# Altium integrated library TI Power Management Special Function.IntLib: 97 symbols (part 5 of 7)
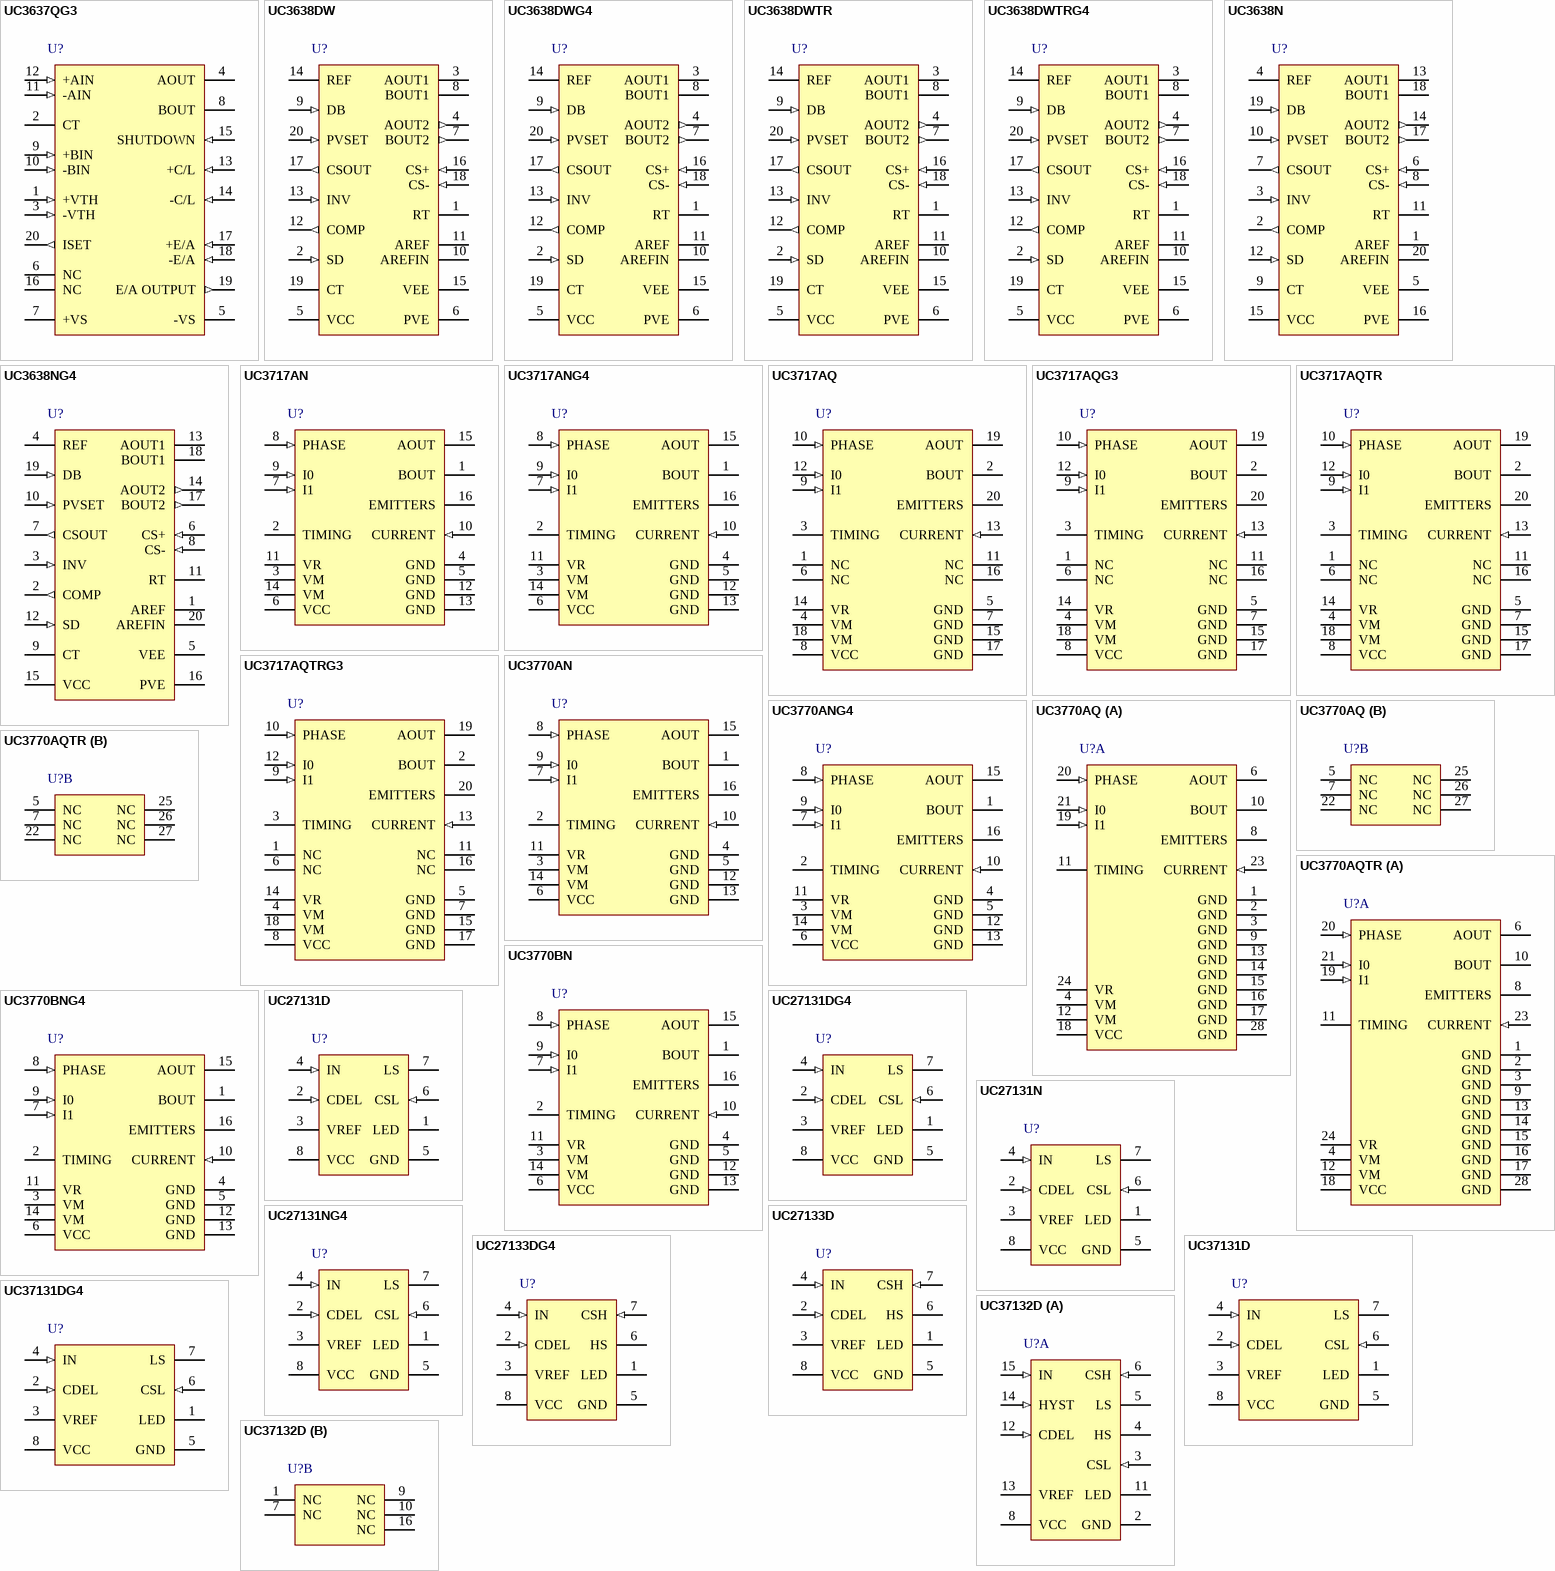
[diagram p7: symbols UC3637QG3 to UC37132D]

## UC3770AQ
designator U?
High Performance Stepper Motor Drive Circuit, 45 V Operating Supply, 0 to 70 degC, 28-pin PLCC (FN), Green (RoHS & no Sb/Br); Manufacturer: Texas Instruments; PartNumber: UC3770AQ; Current-Limited: TRUE; Operating Supply Current(mA): 33; Operating Supply(Max)(V): 45; Operating Supply(Min)(V): 10; Peak Output Current(A): 1.5; SubFamily: Motion/Motor Control; DatasheetVersion: SLUS403A; PackageVersion: revB, Mar-1995; PackageReference: FN28; PackageDescription: 28-Pin Plastic J-Leaded Chip Carrier, 1.27 mm Pitch; Supplier 1: Digi-Key; Supplier Part Number 1: UC3770AQ-ND; Supplier 2: Newark; Supplier Part Number 2: 73C6998; Supplier 3: Mouser; Supplier Part Number 3: 595-UC3770AQ; Eco-Plan: Green (RoHS & no Sb/Br); Stepper Motor Controllers: TRUE; Switching Control: TRUE; Thermal Shutdown: TRUE; Mounting Technology: Surface Mount; Code_JEDEC: MS-018; ComponentLink1Description: Datasheet; ComponentLink1URL: http://www.ti.com/general/docs/lit/getliterature.tsp?genericPartNumber=UC3770A&fileType=pdf
footprint FN28_N (Leaded Chip Carrier, 28-Leads, Body 11.5x11.5mm, Pitch 1.27mm, IPC Medium Density)
footprint FN28_L (Leaded Chip Carrier, 28-Leads, Body 11.5x11.5mm, Pitch 1.27mm, IPC High Density)
footprint FN28_M (Leaded Chip Carrier, 28-Leads, Body 11.5x11.5mm, Pitch 1.27mm, IPC Low Density)
part A pins: 1 GND (power), 2 GND (power), 3 GND (power), 4 VM (power), 6 AOUT (power), 8 EMITTERS (oe), 9 GND (power), 10 BOUT (power), 11 TIMING, 12 VM (power), 13 GND (power), 14 GND (power), 15 GND (power), 16 GND (power), 17 GND (power), 18 VCC (power), 19 I1 (in), 20 PHASE (in), 21 I0 (in), 23 CURRENT (in), 24 VR (power), 28 GND (power)
part B pins: 5 NC, 7 NC, 22 NC, 25 NC, 26 NC, 27 NC

## UC3770AQTR
designator U?
High Performance Stepper Motor Drive Circuit, 45 V Operating Supply, 0 to 70 degC, 28-pin PLCC (FN), Green (RoHS & no Sb/Br); Manufacturer: Texas Instruments; PartNumber: UC3770AQTR; Current-Limited: TRUE; Operating Supply Current(mA): 33; Operating Supply(Max)(V): 45; Operating Supply(Min)(V): 10; Peak Output Current(A): 1.5; SubFamily: Motion/Motor Control; DatasheetVersion: SLUS403A; PackageVersion: revB, Mar-1995; PackageReference: FN28; PackageDescription: 28-Pin Plastic J-Leaded Chip Carrier, 1.27 mm Pitch; Supplier 1: Digi-Key; Supplier Part Number 1: UC3770AQTR-ND; Supplier 2: Newark; Supplier Part Number 2: 77C3219; Supplier 3: Mouser; Supplier Part Number 3: 595-UC3770AQTR; Eco-Plan: Green (RoHS & no Sb/Br); Stepper Motor Controllers: TRUE; Switching Control: TRUE; Thermal Shutdown: TRUE; Mounting Technology: Surface Mount; Code_JEDEC: MS-018; ComponentLink1Description: Datasheet; ComponentLink1URL: http://www.ti.com/general/docs/lit/getliterature.tsp?genericPartNumber=UC3770A&fileType=pdf
footprint FN28_N (Leaded Chip Carrier, 28-Leads, Body 11.5x11.5mm, Pitch 1.27mm, IPC Medium Density)
footprint FN28_L (Leaded Chip Carrier, 28-Leads, Body 11.5x11.5mm, Pitch 1.27mm, IPC High Density)
footprint FN28_M (Leaded Chip Carrier, 28-Leads, Body 11.5x11.5mm, Pitch 1.27mm, IPC Low Density)
part A pins: 1 GND (power), 2 GND (power), 3 GND (power), 4 VM (power), 6 AOUT (power), 8 EMITTERS (oe), 9 GND (power), 10 BOUT (power), 11 TIMING, 12 VM (power), 13 GND (power), 14 GND (power), 15 GND (power), 16 GND (power), 17 GND (power), 18 VCC (power), 19 I1 (in), 20 PHASE (in), 21 I0 (in), 23 CURRENT (in), 24 VR (power), 28 GND (power)
part B pins: 5 NC, 7 NC, 22 NC, 25 NC, 26 NC, 27 NC

## UC3770BN
designator U?
High Performance Stepper Motor Drive Circuit, 45 V Operating Supply, 0 to 70 degC, 16-pin PDIP (N), Green (RoHS & no Sb/Br); Manufacturer: Texas Instruments; PartNumber: UC3770BN; Current-Limited: TRUE; Operating Supply Current(mA): 33; Operating Supply(Max)(V): 45; Operating Supply(Min)(V): 10; Peak Output Current(A): 1.5; SubFamily: Motion/Motor Control; DatasheetVersion: SLUS403A; PackageVersion: revE, Dec-2002; PackageReference: N16; PackageDescription: 16-Pin Plastic Dual-In-Line Package, Row Spacing 7.62 mm, Pitch 2.54 mm; Supplier 1: Digi-Key; Supplier Part Number 1: 296-11260-5-ND; Supplier 2: Newark; Supplier Part Number 2: 77C3220; Supplier 3: Mouser; Supplier Part Number 3: 595-UC3770BN; Eco-Plan: Green (RoHS & no Sb/Br); Stepper Motor Controllers: TRUE; Switching Control: TRUE; Thermal Shutdown: TRUE; Mounting Technology: Through Hole; Code_JEDEC: MS-001*; ComponentLink1Description: Datasheet; ComponentLink1URL: http://www.ti.com/general/docs/lit/getliterature.tsp?genericPartNumber=UC3770B&fileType=pdf
footprint N16 (DIP, 16-Leads, Row Spacing 7.62mm, Pitch 2.54mm, Body 19.3x6.4mm)
pins: 1 BOUT (power), 2 TIMING, 3 VM (power), 4 GND (power), 5 GND (power), 6 VCC (power), 7 I1 (in), 8 PHASE (in), 9 I0 (in), 10 CURRENT (in), 11 VR (power), 12 GND (power), 13 GND (power), 14 VM (power), 15 AOUT (power), 16 EMITTERS (oe)

## UC3770BNG4
designator U?
High Performance Stepper Motor Drive Circuit, 45 V Operating Supply, 0 to 70 degC, 16-pin PDIP (N), Green (RoHS & no Sb/Br); Manufacturer: Texas Instruments; PartNumber: UC3770BNG4; Current-Limited: TRUE; Operating Supply Current(mA): 33; Operating Supply(Max)(V): 45; Operating Supply(Min)(V): 10; Peak Output Current(A): 1.5; SubFamily: Motion/Motor Control; DatasheetVersion: SLUS403A; PackageVersion: revE, Dec-2002; PackageReference: N16; PackageDescription: 16-Pin Plastic Dual-In-Line Package, Row Spacing 7.62 mm, Pitch 2.54 mm; Supplier 1: Digi-Key; Supplier Part Number 1: UC3770BNG4-ND; Supplier 2: Newark; Supplier Part Number 2: 67K8825; Supplier 3: Mouser; Supplier Part Number 3: 595-UC3770BNG4; Eco-Plan: Green (RoHS & no Sb/Br); Stepper Motor Controllers: TRUE; Switching Control: TRUE; Thermal Shutdown: TRUE; Mounting Technology: Through Hole; Code_JEDEC: MS-001*; ComponentLink1Description: Datasheet; ComponentLink1URL: http://www.ti.com/general/docs/lit/getliterature.tsp?genericPartNumber=UC3770B&fileType=pdf
footprint N16 (DIP, 16-Leads, Row Spacing 7.62mm, Pitch 2.54mm, Body 19.3x6.4mm)
pins: 1 BOUT (power), 2 TIMING, 3 VM (power), 4 GND (power), 5 GND (power), 6 VCC (power), 7 I1 (in), 8 PHASE (in), 9 I0 (in), 10 CURRENT (in), 11 VR (power), 12 GND (power), 13 GND (power), 14 VM (power), 15 AOUT (power), 16 EMITTERS (oe)

## UC27131D
designator U?
Low Side Smart Power Switch, 8 to 65 V, 0.7 A Peak Output Current, -40 to 85 degC, 8-pin SOIC (D), Green (RoHS & no Sb/Br); Manufacturer: Texas Instruments; PartNumber: UC27131D; Fall Time(ns): 1000; Input Threshold: CMOS, TTL; No. of Outputs: 1; Peak Output Current(A): 0.7; Prop Delay(ns): 3000; Rating: Catalog; VCC(Max)(V): 65; VCC(Min)(V): 8; DatasheetVersion: SLUS340; PackageVersion: revM, Jun-2011; PackageReference: D8; PackageDescription: 8-Pin Plastic Small Outline Integrated Circuit, 4.9 x 3.9 mm, Pitch 1.27 mm Pitch; Supplier 1: Digi-Key; Supplier Part Number 1: 296-34711-5-ND; Supplier 2: Newark; Supplier Part Number 2: 77C2858; Supplier 3: Mouser; Supplier Part Number 3: 595-UC27131D; Driver Configuration: Low Side; Eco-Plan: Green (RoHS & no Sb/Br); Rise Time(ns): 1000; Mounting Technology: Surface Mount; Code_JEDEC: MS-012AA; ComponentLink1Description: Datasheet; ComponentLink1URL: http://www.ti.com/general/docs/lit/getliterature.tsp?genericPartNumber=UC27131&fileType=pdf
footprint D8_N (SOIC, 8-Leads, Body 4.9x3.9mm, Pitch 1.27mm, IPC Medium Density)
footprint D8_L (SOIC, 8-Leads, Body 4.9x3.9mm, Pitch 1.27mm, IPC High Density)
footprint D8_M (SOIC, 8-Leads, Body 4.9x3.9mm, Pitch 1.27mm, IPC Low Density)
pins: 1 LED (oc) "Open collector output intended to drive an LED.This pin is driven low whenever the output is turned off and is externally pulled high when the output is turned on(see Fig. 3b and 3c).", 2 CDEL (in) "A capacitor connected to this pin is used to program both VCC pulse interruption time and power turn-on delay. The capacitor discharge time corresponds to VCC interruption and the charge time to VCC turn-on delay. The ratio (See Datasheet)", 3 VREF (power) "The 6V regulated reference capable of supplying up to 8mA. The recommended decoupling capacitor is 1nF.", 4 IN (in) "The input to the comparator that detects when the output transistor should be turned on. The input threshold is 3.0V (1/2 VREF) and the input voltage range is 0V to VREF.", 5 GND (power) "The reference point for the internal reference, all thresholds, and the return for the remainder of the device.", 6 CSL (in) "This low side current sense pin is used to program the current limit for low side applications by connecting a resistor between CSL and GND. An over load current is detected when the voltage drop between CSL and GND exceeds (See Datasheet)", 7 LS (power) "The output of the switching transistor in the low side configuration. The collector of the output transistor is the LS pin which is connected to the load. For the UC37132, the LS pin must be tied to the CSH pin in a high (See Datasheet)", 8 VCC (power) "The supply voltage for the chip. Decouple this pin with a good quality ceramic capacitor to ground."

## UC27131DG4
designator U?
Low Side Smart Power Switch, 8 to 65 V, 0.7 A Peak Output Current, -40 to 85 degC, 8-pin SOIC (D), Green (RoHS & no Sb/Br); Manufacturer: Texas Instruments; PartNumber: UC27131DG4; Fall Time(ns): 1000; Input Threshold: CMOS, TTL; No. of Outputs: 1; Peak Output Current(A): 0.7; Prop Delay(ns): 3000; Rating: Catalog; VCC(Max)(V): 65; VCC(Min)(V): 8; DatasheetVersion: SLUS340; PackageVersion: revM, Jun-2011; PackageReference: D8; PackageDescription: 8-Pin Plastic Small Outline Integrated Circuit, 4.9 x 3.9 mm, Pitch 1.27 mm Pitch; Supplier 1: Digi-Key; Supplier Part Number 1: UC27131DG4-ND; Supplier 2: Newark; Supplier Part Number 2: 54K2257; Supplier 3: Mouser; Supplier Part Number 3: 595-UC27131DG4; Driver Configuration: Low Side; Eco-Plan: Green (RoHS & no Sb/Br); Rise Time(ns): 1000; Mounting Technology: Surface Mount; Code_JEDEC: MS-012AA; ComponentLink1Description: Datasheet; ComponentLink1URL: http://www.ti.com/general/docs/lit/getliterature.tsp?genericPartNumber=UC27131&fileType=pdf
footprint D8_N (SOIC, 8-Leads, Body 4.9x3.9mm, Pitch 1.27mm, IPC Medium Density)
footprint D8_L (SOIC, 8-Leads, Body 4.9x3.9mm, Pitch 1.27mm, IPC High Density)
footprint D8_M (SOIC, 8-Leads, Body 4.9x3.9mm, Pitch 1.27mm, IPC Low Density)
pins: 1 LED (oc) "Open collector output intended to drive an LED.This pin is driven low whenever the output is turned off and is externally pulled high when the output is turned on(see Fig. 3b and 3c).", 2 CDEL (in) "A capacitor connected to this pin is used to program both VCC pulse interruption time and power turn-on delay. The capacitor discharge time corresponds to VCC interruption and the charge time to VCC turn-on delay. The ratio (See Datasheet)", 3 VREF (power) "The 6V regulated reference capable of supplying up to 8mA. The recommended decoupling capacitor is 1nF.", 4 IN (in) "The input to the comparator that detects when the output transistor should be turned on. The input threshold is 3.0V (1/2 VREF) and the input voltage range is 0V to VREF.", 5 GND (power) "The reference point for the internal reference, all thresholds, and the return for the remainder of the device.", 6 CSL (in) "This low side current sense pin is used to program the current limit for low side applications by connecting a resistor between CSL and GND. An over load current is detected when the voltage drop between CSL and GND exceeds (See Datasheet)", 7 LS (power) "The output of the switching transistor in the low side configuration. The collector of the output transistor is the LS pin which is connected to the load. For the UC37132, the LS pin must be tied to the CSH pin in a high (See Datasheet)", 8 VCC (power) "The supply voltage for the chip. Decouple this pin with a good quality ceramic capacitor to ground."

## UC27131N
designator U?
Low Side Smart Power Switch, 8 to 65 V, 0.7 A Peak Output Current, -40 to 85 degC, 8-pin PDIP (P), Green (RoHS & no Sb/Br); Manufacturer: Texas Instruments; PartNumber: UC27131N; Fall Time(ns): 1000; Input Threshold: CMOS, TTL; No. of Outputs: 1; Peak Output Current(A): 0.7; Prop Delay(ns): 3000; Rating: Catalog; VCC(Max)(V): 65; VCC(Min)(V): 8; DatasheetVersion: SLUS340; PackageVersion: revE, Apr-2010; PackageReference: P8; PackageDescription: 8-Pin Plastic Dual-In-Line Package, Row Spacing 7.62 mm, Pitch 2.54 mm; Supplier 1: Digi-Key; Supplier Part Number 1: UC27131N-ND; Supplier 2: Newark; Supplier Part Number 2: 77C2860; Supplier 3: Mouser; Supplier Part Number 3: 595-UC27131N; Driver Configuration: Low Side; Eco-Plan: Green (RoHS & no Sb/Br); Rise Time(ns): 1000; Mounting Technology: Through Hole; Code_JEDEC: MS-001-BA; ComponentLink1Description: Datasheet; ComponentLink1URL: http://www.ti.com/general/docs/lit/getliterature.tsp?genericPartNumber=UC27131&fileType=pdf
footprint P8 (DIP, 8-Leads, Row Spacing 7.62mm, Pitch 2.54mm, Body 9.6x6.4mm)
pins: 1 LED (oc) "Open collector output intended to drive an LED.This pin is driven low whenever the output is turned off and is externally pulled high when the output is turned on", 2 CDEL (in) "A capacitor connected to this pin is used to program both VCC pulse interruption time and power turn-on delay. The capacitor discharge time corresponds to VCC interruption and the charge time to VCC turn-on delay. The ratio (See Datasheet)", 3 VREF (power) "The 6V regulated reference capable of supplying up to 8mA. The recommended decoupling capacitor is 1nF.", 4 IN (in) "The input to the comparator that detects when the output transistor should be turned on. The input threshold is 3.0V (1/2 VREF) and the input voltage range is 0V to VREF.", 5 GND (power) "The reference point for the internal reference, all thresholds, and the return for the remainder of the device.", 6 CSL (in) "This low side current sense pin is used to program the current limit for low side applications by connecting a resistor between CSL and GND. An over load current is detected when the voltage drop between CSL and GND exceeds (See Datasheet)", 7 LS (power) "The output of the switching transistor in the low side configuration. The collector of the output transistor is the LS pin which is connected to the load. For the UC37132, the LS pin must be tied to the CSH pin in a high (See Datasheet)", 8 VCC (power) "The supply voltage for the chip. Decouple this pin with a good quality ceramic capacitor to ground."

## UC27131NG4
designator U?
High Side Smart Power Switch, 8 to 65 V, 0.7 A Peak Output Current, -40 to 85 degC, 8-pin PDIP (P), Green (RoHS & no Sb/Br); Manufacturer: Texas Instruments; PartNumber: UC27131NG4; Driver Configuration: Low Side; Fall Time(ns): 1000; Input Threshold: CMOS, TTL; No. of Outputs: 1; Peak Output Current(A): 0.7; Prop Delay(ns): 3000; Rating: Catalog; VCC(Max)(V): 65; VCC(Min)(V): 8; DatasheetVersion: SLUS340; PackageVersion: revE, Apr-2010; PackageReference: P8; PackageDescription: 8-Pin Plastic Dual-In-Line Package, Row Spacing 7.62 mm, Pitch 2.54 mm; Supplier 1: Digi-Key; Supplier Part Number 1: UC27131NG4-ND; Supplier 2: Newark; Supplier Part Number 2: 70K5959; Supplier 3: Mouser; Supplier Part Number 3: 595-UC27131NG4; Eco-Plan: Green (RoHS & no Sb/Br); Rise Time(ns): 1000; Mounting Technology: Through Hole; Code_JEDEC: MS-001-BA; ComponentLink1Description: Datasheet; ComponentLink1URL: http://www.ti.com/general/docs/lit/getliterature.tsp?genericPartNumber=UC27131&fileType=pdf
footprint P8 (DIP, 8-Leads, Row Spacing 7.62mm, Pitch 2.54mm, Body 9.6x6.4mm)
pins: 1 LED (oc) "Open collector output intended to drive an LED.This pin is driven low whenever the output is turned off and is externally pulled high when the output is turned on", 2 CDEL (in) "A capacitor connected to this pin is used to program both VCC pulse interruption time and power turn-on delay. The capacitor discharge time corresponds to VCC interruption and the charge time to VCC turn-on delay. The ratio (See Datasheet)", 3 VREF (power) "The 6V regulated reference capable of supplying up to 8mA. The recommended decoupling capacitor is 1nF.", 4 IN (in) "The input to the comparator that detects when the output transistor should be turned on. The input threshold is 3.0V (1/2 VREF) and the input voltage range is 0V to VREF.", 5 GND (power) "The reference point for the internal reference, all thresholds, and the return for the remainder of the device.", 6 CSL (in) "This low side current sense pin is used to program the current limit for low side applications by connecting a resistor between CSL and GND. An over load current is detected when the voltage drop between CSL and GND exceeds (See Datasheet)", 7 LS (power) "The output of the switching transistor in the low side configuration. The collector of the output transistor is the LS pin which is connected to the load. For the UC37132, the LS pin must be tied to the CSH pin in a high (See Datasheet)", 8 VCC (power) "The supply voltage for the chip. Decouple this pin with a good quality ceramic capacitor to ground."

## UC27133D
designator U?
High Side Smart Power Switch, 8 to 65 V, 0.7 A Peak Output Current, -40 to 85 degC, 8-pin SOIC (D), Green (RoHS & no Sb/Br); Manufacturer: Texas Instruments; PartNumber: UC27133D; Fall Time(ns): 1000; Input Threshold: CMOS, TTL; No. of Outputs: 1; Peak Output Current(A): 0.7; Prop Delay(ns): 3000; Rating: Catalog; VCC(Max)(V): 65; VCC(Min)(V): 8; DatasheetVersion: SLUS340; PackageVersion: revM, Jun-2011; PackageReference: D8; PackageDescription: 8-Pin Plastic Small Outline Integrated Circuit, 4.9 x 3.9 mm, Pitch 1.27 mm Pitch; Supplier 1: Digi-Key; Supplier Part Number 1: 296-34712-5-ND; Supplier 2: Newark; Supplier Part Number 2: 77C2864; Supplier 3: Mouser; Supplier Part Number 3: 595-UC27133D; Driver Configuration: High Side; Eco-Plan: Green (RoHS & no Sb/Br); Rise Time(ns): 1000; Mounting Technology: Surface Mount; Code_JEDEC: MS-012AA; ComponentLink1Description: Datasheet; ComponentLink1URL: http://www.ti.com/general/docs/lit/getliterature.tsp?genericPartNumber=UC27131&fileType=pdf
footprint D8_N (SOIC, 8-Leads, Body 4.9x3.9mm, Pitch 1.27mm, IPC Medium Density)
footprint D8_L (SOIC, 8-Leads, Body 4.9x3.9mm, Pitch 1.27mm, IPC High Density)
footprint D8_M (SOIC, 8-Leads, Body 4.9x3.9mm, Pitch 1.27mm, IPC Low Density)
pins: 1 LED (oc) "Open collector output intended to drive an LED.This pin is driven low whenever the output is turned off and is externally pulled high when the output is turned on(see Fig. 3b and 3c).", 2 CDEL (in) "A capacitor connected to this pin is used to program both VCC pulse interruption time and power turn-on delay. The capacitor discharge time corresponds to VCC interruption and the charge time to VCC turn-on delay. The ratio (See Datasheet)", 3 VREF (power) "The 6V regulated reference capable of supplying up to 8mA. The recommended decoupling capacitor is 1nF.", 4 IN (in) "The input to the comparator that detects when the output transistor should be turned on. The input threshold is 3.0V (1/2 VREF) and the input voltage range is 0V to VREF.", 5 GND (power) "The reference point for the internal reference, all thresholds, and the return for the remainder of the device.", 6 HS (power) "The output of the switching transistor in the low side configuration. The collector of the output transistor is the LS pin which is connected to the load. For the UC37132, the LS pin must be tied to the CSH pin in a high (See Datasheet)", 7 CSH (in) "This high side current sense pin is used to program the current limit for high side applications by connecting a resistor between VCC and CSH. An over load current is detected when the voltage drop between VCC and CSH (See Datasheet)", 8 VCC (power) "The supply voltage for the chip. Decouple this pin with a good quality ceramic capacitor to ground."

## UC27133DG4
designator U?
High Side Smart Power Switch, 8 to 65 V, 0.7 A Peak Output Current, -40 to 85 degC, 8-pin SOIC (D), Green (RoHS & no Sb/Br); Manufacturer: Texas Instruments; PartNumber: UC27133DG4; Fall Time(ns): 1000; Input Threshold: CMOS, TTL; No. of Outputs: 1; Peak Output Current(A): 0.7; Prop Delay(ns): 3000; Rating: Catalog; VCC(Max)(V): 65; VCC(Min)(V): 8; DatasheetVersion: SLUS340; PackageVersion: revM, Jun-2011; PackageReference: D8; PackageDescription: 8-Pin Plastic Small Outline Integrated Circuit, 4.9 x 3.9 mm, Pitch 1.27 mm Pitch; Supplier 1: Digi-Key; Supplier Part Number 1: UC27133DG4-ND; Supplier 2: Newark; Supplier Part Number 2: 52M6455; Supplier 3: Mouser; Supplier Part Number 3: 595-UC27133DG4; Driver Configuration: High Side; Eco-Plan: Green (RoHS & no Sb/Br); Rise Time(ns): 1000; Mounting Technology: Surface Mount; Code_JEDEC: MS-012AA; ComponentLink1Description: Datasheet; ComponentLink1URL: http://www.ti.com/general/docs/lit/getliterature.tsp?genericPartNumber=UC27133&fileType=pdf
footprint D8_N (SOIC, 8-Leads, Body 4.9x3.9mm, Pitch 1.27mm, IPC Medium Density)
footprint D8_L (SOIC, 8-Leads, Body 4.9x3.9mm, Pitch 1.27mm, IPC High Density)
footprint D8_M (SOIC, 8-Leads, Body 4.9x3.9mm, Pitch 1.27mm, IPC Low Density)
pins: 1 LED (oc) "Open collector output intended to drive an LED.This pin is driven low whenever the output is turned off and is externally pulled high when the output is turned on(see Fig. 3b and 3c).", 2 CDEL (in) "A capacitor connected to this pin is used to program both VCC pulse interruption time and power turn-on delay. The capacitor discharge time corresponds to VCC interruption and the charge time to VCC turn-on delay. The ratio (See Datasheet)", 3 VREF (power) "The 6V regulated reference capable of supplying up to 8mA. The recommended decoupling capacitor is 1nF.", 4 IN (in) "The input to the comparator that detects when the output transistor should be turned on. The input threshold is 3.0V (1/2 VREF) and the input voltage range is 0V to VREF.", 5 GND (power) "The reference point for the internal reference, all thresholds, and the return for the remainder of the device.", 6 HS (power) "The output of the switching transistor in the low side configuration. The collector of the output transistor is the LS pin which is connected to the load. For the UC37132, the LS pin must be tied to the CSH pin in a high (See Datasheet)", 7 CSH (in) "This high side current sense pin is used to program the current limit for high side applications by connecting a resistor between VCC and CSH. An over load current is detected when the voltage drop between VCC and CSH (See Datasheet)", 8 VCC (power) "The supply voltage for the chip. Decouple this pin with a good quality ceramic capacitor to ground."

## UC37131D
designator U?
Low Side Smart Power Switch, 8 to 65 V, 0.7 A Peak Output Current, 0 to 70 degC, 8-pin SOIC (D), Green (RoHS & no Sb/Br); Manufacturer: Texas Instruments; PartNumber: UC37131D; Fall Time(ns): 1000; Input Threshold: CMOS, TTL; No. of Outputs: 1; Peak Output Current(A): 0.7; Prop Delay(ns): 3000; Rating: Catalog; VCC(Max)(V): 65; VCC(Min)(V): 8; DatasheetVersion: SLUS340; PackageVersion: revM, Jun-2011; PackageReference: D8; PackageDescription: 8-Pin Plastic Small Outline Integrated Circuit, 4.9 x 3.9 mm, Pitch 1.27 mm Pitch; Supplier 1: Digi-Key; Supplier Part Number 1: 296-11248-5-ND; Supplier 2: Newark; Supplier Part Number 2: 77C3200; Supplier 3: Mouser; Supplier Part Number 3: 595-UC37131D; Driver Configuration: Low Side; Eco-Plan: Green (RoHS & no Sb/Br); Rise Time(ns): 1000; Mounting Technology: Surface Mount; Code_JEDEC: MS-012AA; ComponentLink1Description: Datasheet; ComponentLink1URL: http://www.ti.com/general/docs/lit/getliterature.tsp?genericPartNumber=UC27133&fileType=pdf
footprint D8_N (SOIC, 8-Leads, Body 4.9x3.9mm, Pitch 1.27mm, IPC Medium Density)
footprint D8_L (SOIC, 8-Leads, Body 4.9x3.9mm, Pitch 1.27mm, IPC High Density)
footprint D8_M (SOIC, 8-Leads, Body 4.9x3.9mm, Pitch 1.27mm, IPC Low Density)
pins: 1 LED (oc) "Open collector output intended to drive an LED.This pin is driven low whenever the output is turned off and is externally pulled high when the output is turned on(see Fig. 3b and 3c).", 2 CDEL (in) "A capacitor connected to this pin is used to program both VCC pulse interruption time and power turn-on delay. The capacitor discharge time corresponds to VCC interruption and the charge time to VCC turn-on delay. The ratio (See Datasheet)", 3 VREF (power) "The 6V regulated reference capable of supplying up to 8mA. The recommended decoupling capacitor is 1nF.", 4 IN (in) "The input to the comparator that detects when the output transistor should be turned on. The input threshold is 3.0V (1/2 VREF) and the input voltage range is 0V to VREF.", 5 GND (power) "The reference point for the internal reference, all thresholds, and the return for the remainder of the device.", 6 CSL (in) "This low side current sense pin is used to program the current limit for low side applications by connecting a resistor between CSL and GND. An over load current is detected when the voltage drop between CSL and GND exceeds (See Datasheet)", 7 LS (power) "The output of the switching transistor in the low side configuration. The collector of the output transistor is the LS pin which is connected to the load. For the UC37132, the LS pin must be tied to the CSH pin in a high (See Datasheet)", 8 VCC (power) "The supply voltage for the chip. Decouple this pin with a good quality ceramic capacitor to ground."

## UC37131DG4
designator U?
Low Side Smart Power Switch, 8 to 65 V, 0.7 A Peak Output Current, 0 to 70 degC, 8-pin SOIC (D), Green (RoHS & no Sb/Br); Manufacturer: Texas Instruments; PartNumber: UC37131DG4; Fall Time(ns): 1000; Input Threshold: CMOS, TTL; No. of Outputs: 1; Peak Output Current(A): 0.7; Prop Delay(ns): 3000; Rating: Catalog; VCC(Max)(V): 65; VCC(Min)(V): 8; DatasheetVersion: SLUS340; PackageVersion: revM, Jun-2011; PackageReference: D8; PackageDescription: 8-Pin Plastic Small Outline Integrated Circuit, 4.9 x 3.9 mm, Pitch 1.27 mm Pitch; Supplier 1: Digi-Key; Supplier Part Number 1: UC37131DG4-ND; Supplier 2: Newark; Supplier Part Number 2: 60M2700; Supplier 3: Mouser; Supplier Part Number 3: 595-UC37131DG4; Driver Configuration: Low Side; Eco-Plan: Green (RoHS & no Sb/Br); Rise Time(ns): 1000; Mounting Technology: Surface Mount; Code_JEDEC: MS-012AA; ComponentLink1Description: Datasheet; ComponentLink1URL: http://www.ti.com/general/docs/lit/getliterature.tsp?genericPartNumber=UC37131&fileType=pdf
footprint D8_N (SOIC, 8-Leads, Body 4.9x3.9mm, Pitch 1.27mm, IPC Medium Density)
footprint D8_L (SOIC, 8-Leads, Body 4.9x3.9mm, Pitch 1.27mm, IPC High Density)
footprint D8_M (SOIC, 8-Leads, Body 4.9x3.9mm, Pitch 1.27mm, IPC Low Density)
pins: 1 LED (oc) "Open collector output intended to drive an LED.This pin is driven low whenever the output is turned off and is externally pulled high when the output is turned on(see Fig. 3b and 3c).", 2 CDEL (in) "A capacitor connected to this pin is used to program both VCC pulse interruption time and power turn-on delay. The capacitor discharge time corresponds to VCC interruption and the charge time to VCC turn-on delay. The ratio (See Datasheet)", 3 VREF (power) "The 6V regulated reference capable of supplying up to 8mA. The recommended decoupling capacitor is 1nF.", 4 IN (in) "The input to the comparator that detects when the output transistor should be turned on. The input threshold is 3.0V (1/2 VREF) and the input voltage range is 0V to VREF.", 5 GND (power) "The reference point for the internal reference, all thresholds, and the return for the remainder of the device.", 6 CSL (in) "This low side current sense pin is used to program the current limit for low side applications by connecting a resistor between CSL and GND. An over load current is detected when the voltage drop between CSL and GND exceeds (See Datasheet)", 7 LS (power) "The output of the switching transistor in the low side configuration. The collector of the output transistor is the LS pin which is connected to the load. For the UC37132, the LS pin must be tied to the CSH pin in a high (See Datasheet)", 8 VCC (power) "The supply voltage for the chip. Decouple this pin with a good quality ceramic capacitor to ground."

## UC37132D
designator U?
High or Low Side Smart Power Switch, 8 to 65 V, 0.7 A Peak Output Current, 0 to 70 degC, 16-pin SOIC (D), Green (RoHS & no Sb/Br); Manufacturer: Texas Instruments; PartNumber: UC37132D; Driver Configuration: High Side, Low Side; Fall Time(ns): 1000; Input Threshold: CMOS, TTL; No. of Outputs: 1; Peak Output Current(A): 0.7; Prop Delay(ns): 3000; Rating: Catalog; VCC(Max)(V): 65; VCC(Min)(V): 8; DatasheetVersion: SLUS340; PackageVersion: revM, Jun-2011; PackageReference: D16; PackageDescription: 16-Pin Plastic Small Outline Integrated Circuit, 9.9 x 3.9 mm, Pitch 1.27 mm Pitch; Supplier 1: Digi-Key; Supplier Part Number 1: 296-11249-5-ND; Supplier 2: Newark; Supplier Part Number 2: 77C3203; Supplier 3: Mouser; Supplier Part Number 3: 595-UC37132D; Eco-Plan: Green (RoHS & no Sb/Br); Rise Time(ns): 1000; Mounting Technology: Surface Mount; Code_JEDEC: MS-012AC; ComponentLink1Description: Datasheet; ComponentLink1URL: http://www.ti.com/general/docs/lit/getliterature.tsp?genericPartNumber=UC37131&fileType=pdf
footprint D16_N (SOIC, 16-Leads, Body 9.9x3.9mm, Pitch 1.27mm, IPC Medium Density)
footprint D16_L (SOIC, 16-Leads, Body 9.9x3.9mm, Pitch 1.27mm, IPC High Density)
footprint D16_M (SOIC, 16-Leads, Body 9.9x3.9mm, Pitch 1.27mm, IPC Low Density)
part A pins: 2 GND (power) "The reference point for the internal reference, all thresholds, and the return for the remainder of the device.", 3 CSL (in) "(For UC37131 and UC37132) This low side current sense pin is used to program the current limit for low side applications by connecting a resistor between CSL and GND. An over load current is detected when the voltage drop (See Datasheet)", 4 HS (power) "(For UC37132 and UC37133) The output of the switching transistor in the high side configuration. The emitter of the output transistor is the HS pin which is connected to the load. For the UC37132, the HS pin must be tied to (See Datasheet)", 5 LS (power) "(For UC37131 and UC37132) The output of the switching transistor in the low side configuration. The collector of the output transistor is the LS pin which is connected to the load. For the UC37132, the LS pin must be tied to (See Datasheet)", 6 CSH (in) "(For UC37132 and UC37133) This high side current sense pin is used to program the current limit for high side applications by connecting a resistor between VCC and CSH. An over load current is detected when the voltage drop (See Datasheet)", 8 VCC (power) "The supply voltage for the chip. Decouple this pin with a good quality ceramic capacitor to ground.", 11 LED (oc) "Open collector output intended to drive an LED. This pin is driven low whenever the output is turned off and is externally pulled high when the output is turned on (see Fig. 3b and 3c).", 12 CDEL (in) "A capacitor connected to this pin is used to program both VCC pulse interruption time and power turn-on delay. The capacitor discharge time corresponds to VCC interruption and the charge time to VCC turn-on delay. The ratio (See Datasheet)", 13 VREF (power) "The 6V regulated reference capable of supplying up to 8mA. The recommended decoupling capacitor is 1nF.", 14 HYST (in) "(For UC37132) The pin used to program the input comparator hysteresis by connecting a resistor to ground. The hysteresis defaults to 30% with HYST grounded (internally for UC37131 and UC37133). VHYST=3000/(3330+RHYST)", 15 IN (in) "The input to the comparator that detects when the output transistor should be turned on. The input threshold is 3.0V (1/2 VREF) and the input voltage range is 0V to VREF."
part B pins: 1 NC "No connection", 7 NC "The input to the comparator that detects when the", 9 NC "No connection", 10 NC "No connection", 16 NC "No connection"

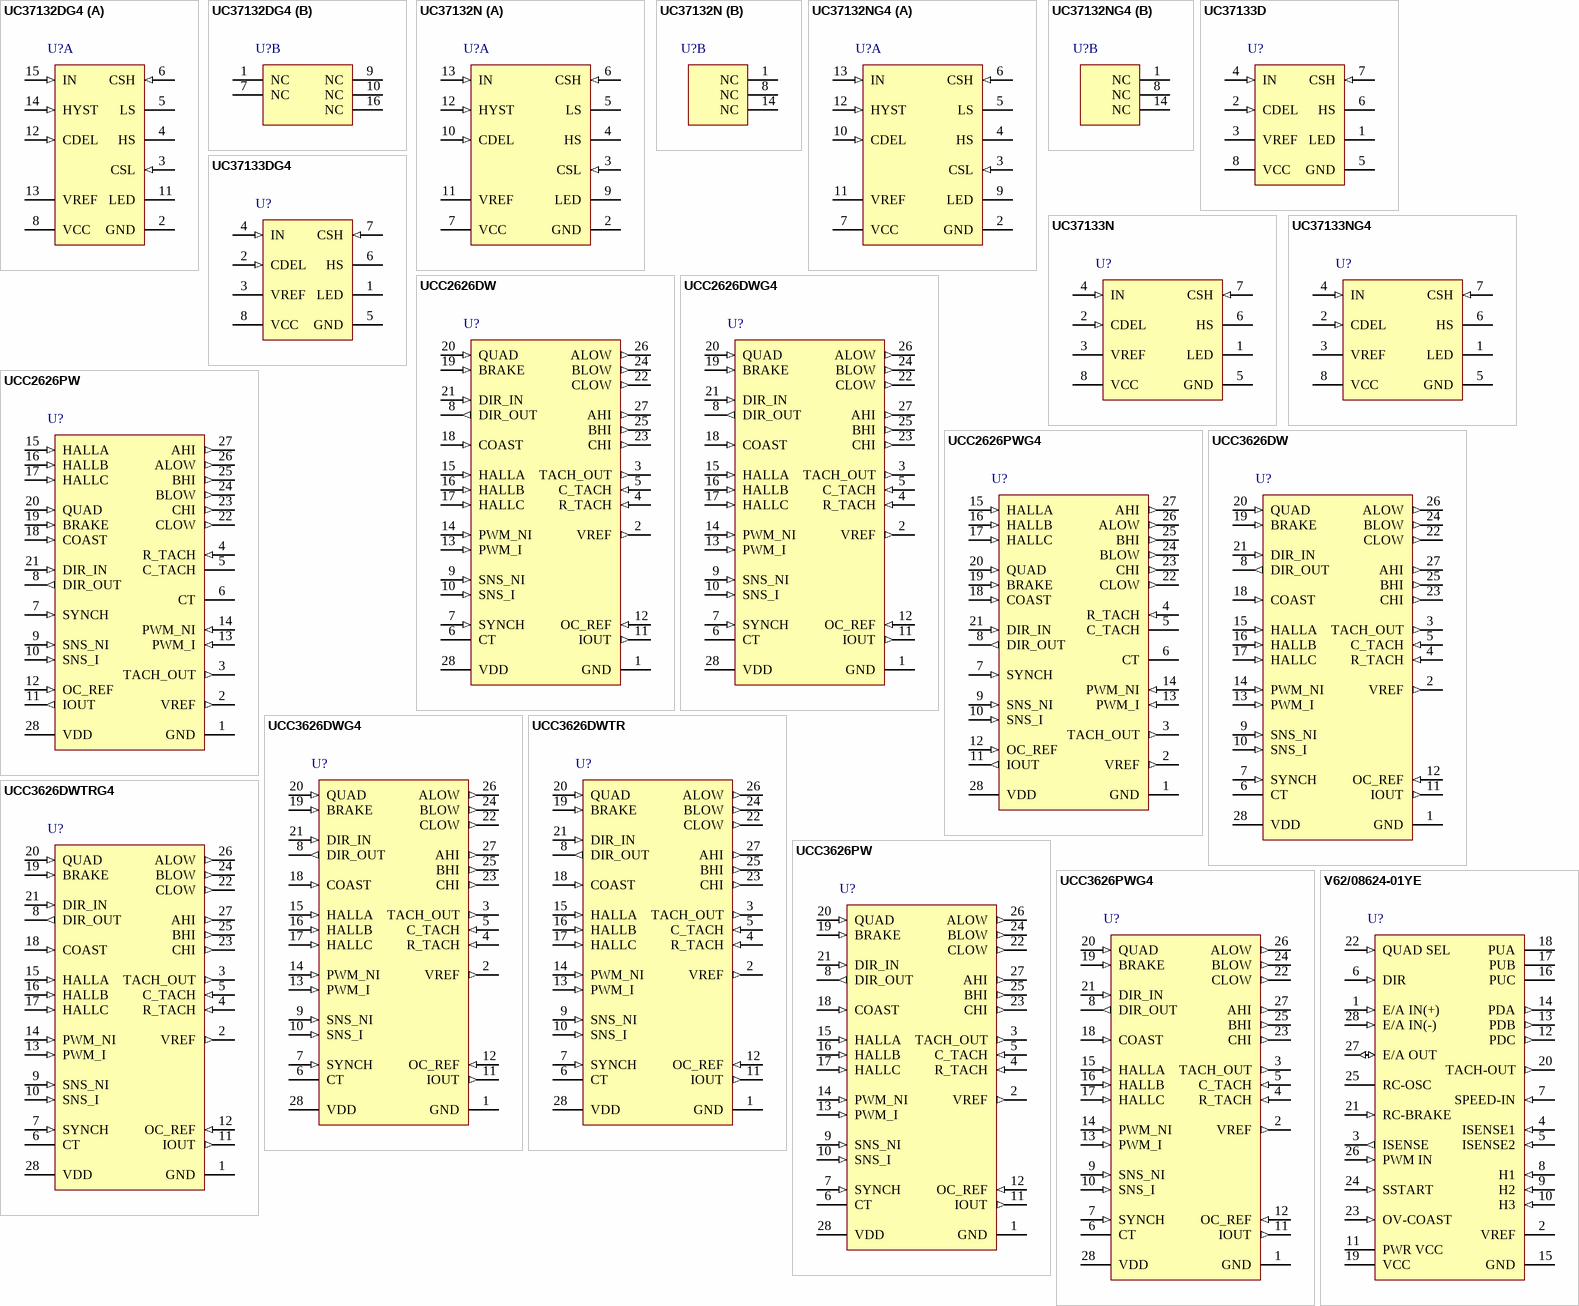
[diagram p3: symbols UC37132DG4 to V62/08624-01YE]

## UC37132DG4
designator U?
High or Low Side Smart Power Switch, 8 to 65 V, 0.7 A Peak Output Current, 0 to 70 degC, 16-pin SOIC (D), Green (RoHS & no Sb/Br); Manufacturer: Texas Instruments; PartNumber: UC37132DG4; Driver Configuration: High Side, Low Side; Fall Time(ns): 1000; Input Threshold: CMOS, TTL; No. of Outputs: 1; Peak Output Current(A): 0.7; Prop Delay(ns): 3000; Rating: Catalog; VCC(Max)(V): 65; VCC(Min)(V): 8; DatasheetVersion: SLUS340; PackageVersion: revM, Jun-2011; PackageReference: D16; PackageDescription: 16-Pin Plastic Small Outline Integrated Circuit, 9.9 x 3.9 mm, Pitch 1.27 mm Pitch; Supplier 1: Digi-Key; Supplier Part Number 1: UC37132DG4-ND; Supplier 2: Newark; Supplier Part Number 2: 52M6462; Supplier 3: Mouser; Supplier Part Number 3: 595-UC37132DG4; Eco-Plan: Green (RoHS & no Sb/Br); Rise Time(ns): 1000; Mounting Technology: Surface Mount; Code_JEDEC: MS-012AC; ComponentLink1Description: Datasheet; ComponentLink1URL: http://www.ti.com/general/docs/lit/getliterature.tsp?genericPartNumber=UC37132&fileType=pdf
footprint D16_N (SOIC, 16-Leads, Body 9.9x3.9mm, Pitch 1.27mm, IPC Medium Density)
footprint D16_L (SOIC, 16-Leads, Body 9.9x3.9mm, Pitch 1.27mm, IPC High Density)
footprint D16_M (SOIC, 16-Leads, Body 9.9x3.9mm, Pitch 1.27mm, IPC Low Density)
part A pins: 2 GND (power) "The reference point for the internal reference, all thresholds, and the return for the remainder of the device.", 3 CSL (in) "(For UC37131 and UC37132) This low side current sense pin is used to program the current limit for low side applications by connecting a resistor between CSL and GND. An over load current is detected when the voltage drop (See Datasheet)", 4 HS (power) "(For UC37132 and UC37133) The output of the switching transistor in the high side configuration. The emitter of the output transistor is the HS pin which is connected to the load. For the UC37132, the HS pin must be tied to (See Datasheet)", 5 LS (power) "(For UC37131 and UC37132) The output of the switching transistor in the low side configuration. The collector of the output transistor is the LS pin which is connected to the load. For the UC37132, the LS pin must be tied to (See Datasheet)", 6 CSH (in) "(For UC37132 and UC37133) This high side current sense pin is used to program the current limit for high side applications by connecting a resistor between VCC and CSH. An over load current is detected when the voltage drop (See Datasheet)", 8 VCC (power) "The supply voltage for the chip. Decouple this pin with a good quality ceramic capacitor to ground.", 11 LED (oc) "Open collector output intended to drive an LED. This pin is driven low whenever the output is turned off and is externally pulled high when the output is turned on (see Fig. 3b and 3c).", 12 CDEL (in) "A capacitor connected to this pin is used to program both VCC pulse interruption time and power turn-on delay. The capacitor discharge time corresponds to VCC interruption and the charge time to VCC turn-on delay. The ratio (See Datasheet)", 13 VREF (power) "The 6V regulated reference capable of supplying up to 8mA. The recommended decoupling capacitor is 1nF.", 14 HYST (in) "(For UC37132) The pin used to program the input comparator hysteresis by connecting a resistor to ground. The hysteresis defaults to 30% with HYST grounded (internally for UC37131 and UC37133). VHYST=3000/(3330+RHYST)", 15 IN (in) "The input to the comparator that detects when the output transistor should be turned on. The input threshold is 3.0V (1/2 VREF) and the input voltage range is 0V to VREF."
part B pins: 1 NC "No connection", 7 NC "The input to the comparator that detects when the", 9 NC "No connection", 10 NC "No connection", 16 NC "No connection"

## UC37132N
designator U?
High or Low Side Smart Power Switch, 8 to 65 V, 0.7 A Peak Output Current, 0 to 70 degC, 14-pin PDIP (N), Green (RoHS & no Sb/Br); Manufacturer: Texas Instruments; PartNumber: UC37132N; Driver Configuration: High Side, Low Side; Fall Time(ns): 1000; Input Threshold: CMOS, TTL; No. of Outputs: 1; Peak Output Current(A): 0.7; Prop Delay(ns): 3000; Rating: Catalog; VCC(Max)(V): 65; VCC(Min)(V): 8; DatasheetVersion: SLUS340; PackageVersion: revE, Dec-2002; PackageReference: N14; PackageDescription: 14-Pin Plastic Dual-In-Line Package, Row Spacing 7.62 mm, Pitch 2.54 mm; Supplier 1: Digi-Key; Supplier Part Number 1: 296-11250-5-ND; Supplier 2: Newark; Supplier Part Number 2: 77C3205; Supplier 3: Mouser; Supplier Part Number 3: 595-UC37132N; Eco-Plan: Green (RoHS & no Sb/Br); Rise Time(ns): 1000; Mounting Technology: Through Hole; Code_JEDEC: MS-001; ComponentLink1Description: Datasheet; ComponentLink1URL: http://www.ti.com/general/docs/lit/getliterature.tsp?genericPartNumber=UC37132&fileType=pdf
footprint N14 (DIP, 14-Leads, Row Spacing 7.62mm, Pitch 2.54mm, Body 19.3x6.4mm)
part A pins: 2 GND (power) "The reference point for the internal reference, all thresholds, and the return for the remainder of the device.", 3 CSL (in) "This low side current sense pin is used to program the current limit for low side applications by connecting a resistor between CSL and GND. An over load current is detected when the voltage drop between CSL and GND exceeds (See Datasheet)", 4 HS (power) "The output of the switching transistor in the high side configuration. The emitter of the output transistor is the HS pin which is connected to the load. For the UC37132, the HS pin must be tied to the CSL pin in a low side (See Datasheet)", 5 LS (power) "The output of the switching transistor in the low side configuration. The collector of the output transistor is the LS pin which is connected to the load. For the UC37132, the LS pin must be tied to the CSH pin in a high (See Datasheet)", 6 CSH (in) "This high side current sense pin is used to program the current limit for high side applications by connecting a resistor between VCC and CSH. An over load current is detected when the voltage drop between VCC and CSH (See Datasheet)", 7 VCC (power) "The supply voltage for the chip. Decouple this pin with a good quality ceramic capacitor to ground.", 9 LED (oc) "Open collector output intended to drive an LED. This pin is driven low whenever the output is turned off and is externally pulled high when the output is turned on (see Fig. 3b and 3c).", 10 CDEL (in) "A capacitor connected to this pin is used to program both VCC pulse interruption time and power turn-on delay. The capacitor discharge time corresponds to VCC interruption and the charge time to VCC turn-on delay. The ratio (See Datasheet)", 11 VREF (power) "The 6V regulated reference capable of supplying up to 8mA. The recommended decoupling capacitor is 1nF.", 12 HYST (in) "The pin used to program the input comparator hysteresis by connecting a resistor to ground. The hysteresis defaults to 30% with HYST grounded", 13 IN (in) "The input to the comparator that detects when the output transistor should be turned on. The input threshold is 3.0V (1/2 VREF) and the input voltage range is 0V to VREF."
part B pins: 1 NC "no connection", 8 NC "no connection", 14 NC "no connection"

## UC37132NG4
designator U?
High or Low Side Smart Power Switch, 8 to 65 V, 0.7 A Peak Output Current, 0 to 70 degC, 14-pin PDIP (N), Green (RoHS & no Sb/Br); Manufacturer: Texas Instruments; PartNumber: UC37132NG4; Driver Configuration: High Side, Low Side; Fall Time(ns): 1000; Input Threshold: CMOS, TTL; No. of Outputs: 1; Peak Output Current(A): 0.7; Prop Delay(ns): 3000; Rating: Catalog; VCC(Max)(V): 65; VCC(Min)(V): 8; DatasheetVersion: SLUS340; PackageVersion: revE, Dec-2002; PackageReference: N14; PackageDescription: 14-Pin Plastic Dual-In-Line Package, Row Spacing 7.62 mm, Pitch 2.54 mm; Supplier 1: Digi-Key; Supplier Part Number 1: UC37132NG4-ND; Supplier 2: Newark; Supplier Part Number 2: 54K2318; Supplier 3: Mouser; Supplier Part Number 3: 595-UC37132NG4; Eco-Plan: Green (RoHS & no Sb/Br); Rise Time(ns): 1000; Mounting Technology: Through Hole; Code_JEDEC: MS-001; ComponentLink1Description: Datasheet; ComponentLink1URL: http://www.ti.com/general/docs/lit/getliterature.tsp?genericPartNumber=UC37132&fileType=pdf
footprint N14 (DIP, 14-Leads, Row Spacing 7.62mm, Pitch 2.54mm, Body 19.3x6.4mm)
part A pins: 2 GND (power) "The reference point for the internal reference, all thresholds, and the return for the remainder of the device.", 3 CSL (in) "This low side current sense pin is used to program the current limit for low side applications by connecting a resistor between CSL and GND. An over load current is detected when the voltage drop between CSL and GND exceeds (See Datasheet)", 4 HS (power) "The output of the switching transistor in the high side configuration. The emitter of the output transistor is the HS pin which is connected to the load. For the UC37132, the HS pin must be tied to the CSL pin in a low side (See Datasheet)", 5 LS (power) "The output of the switching transistor in the low side configuration. The collector of the output transistor is the LS pin which is connected to the load. For the UC37132, the LS pin must be tied to the CSH pin in a high (See Datasheet)", 6 CSH (in) "This high side current sense pin is used to program the current limit for high side applications by connecting a resistor between VCC and CSH. An over load current is detected when the voltage drop between VCC and CSH (See Datasheet)", 7 VCC (power) "The supply voltage for the chip. Decouple this pin with a good quality ceramic capacitor to ground.", 9 LED (oc) "Open collector output intended to drive an LED. This pin is driven low whenever the output is turned off and is externally pulled high when the output is turned on (see Fig. 3b and 3c).", 10 CDEL (in) "A capacitor connected to this pin is used to program both VCC pulse interruption time and power turn-on delay. The capacitor discharge time corresponds to VCC interruption and the charge time to VCC turn-on delay. The ratio (See Datasheet)", 11 VREF (power) "The 6V regulated reference capable of supplying up to 8mA. The recommended decoupling capacitor is 1nF.", 12 HYST (in) "The pin used to program the input comparator hysteresis by connecting a resistor to ground. The hysteresis defaults to 30% with HYST grounded", 13 IN (in) "The input to the comparator that detects when the output transistor should be turned on. The input threshold is 3.0V (1/2 VREF) and the input voltage range is 0V to VREF."
part B pins: 1 NC "no connection", 8 NC "no connection", 14 NC "no connection"

## UC37133D
designator U?
High Side Smart Power Switch, 8 to 65 V, 0.7 A Peak Output Current, 0 to 70 degC, 8-pin SOIC (D), Green (RoHS & no Sb/Br); Manufacturer: Texas Instruments; PartNumber: UC37133D; Fall Time(ns): 1000; Input Threshold: CMOS, TTL; No. of Outputs: 1; Peak Output Current(A): 0.7; Prop Delay(ns): 3000; Rating: Catalog; VCC(Max)(V): 65; VCC(Min)(V): 8; DatasheetVersion: SLUS340; PackageVersion: revM, Jun-2011; PackageReference: D8; PackageDescription: 8-Pin Plastic Small Outline Integrated Circuit, 4.9 x 3.9 mm, Pitch 1.27 mm Pitch; Supplier 1: Digi-Key; Supplier Part Number 1: 296-11251-5-ND; Supplier 2: Newark; Supplier Part Number 2: 77C3206; Supplier 3: Mouser; Supplier Part Number 3: 595-UC37133D; Driver Configuration: High Side; Eco-Plan: Green (RoHS & no Sb/Br); Rise Time(ns): 1000; Mounting Technology: Surface Mount; Code_JEDEC: MS-012AA; ComponentLink1Description: Datasheet; ComponentLink1URL: http://www.ti.com/general/docs/lit/getliterature.tsp?genericPartNumber=UC37132&fileType=pdf
footprint D8_N (SOIC, 8-Leads, Body 4.9x3.9mm, Pitch 1.27mm, IPC Medium Density)
footprint D8_L (SOIC, 8-Leads, Body 4.9x3.9mm, Pitch 1.27mm, IPC High Density)
footprint D8_M (SOIC, 8-Leads, Body 4.9x3.9mm, Pitch 1.27mm, IPC Low Density)
pins: 1 LED (oc) "Open collector output intended to drive an LED. This pin is driven low whenever the output is turned off and is externally pulled high when the output is turned on (see Fig. 3b and 3c).", 2 CDEL (in) "A capacitor connected to this pin is used to program both VCC pulse interruption time and power turn-on delay. The capacitor discharge time corresponds to VCC interruption and the charge time to VCC turn-on delay. The ratio (See Datasheet)", 3 VREF (power) "The 6V regulated reference capable of supplying up to 8mA. The recommended decoupling capacitor is 1nF.", 4 IN (in) "The input to the comparator that detects when the output transistor should be turned on. The input threshold is 3.0V (1/2 VREF) and the input voltage range is 0V to VREF.", 5 GND (power) "The reference point for the internal reference, all thresholds, and the return for the remainder of the device.", 6 HS (power) "(For UC37132 and UC37133) The output of the switching transistor in the high side configuration. The emitter of the output transistor is the HS pin which is connected to the load. For the UC37132, the HS pin must be tied to (See Datasheet)", 7 CSH (in) "(For UC37132 and UC37133) This high side current sense pin is used to program the current limit for high side applications by connecting a resistor between VCC and CSH. An over load current is detected when the voltage drop (See Datasheet)", 8 VCC (power) "The supply voltage for the chip. Decouple this pin with a good quality ceramic capacitor to ground."

## UC37133DG4
designator U?
High Side Smart Power Switch, 8 to 65 V, 0.7 A Peak Output Current, 0 to 70 degC, 8-pin SOIC (D), Green (RoHS & no Sb/Br); Manufacturer: Texas Instruments; PartNumber: UC37133DG4; Fall Time(ns): 1000; Input Threshold: CMOS, TTL; No. of Outputs: 1; Peak Output Current(A): 0.7; Prop Delay(ns): 3000; Rating: Catalog; VCC(Max)(V): 65; VCC(Min)(V): 8; DatasheetVersion: SLUS340; PackageVersion: revM, Jun-2011; PackageReference: D8; PackageDescription: 8-Pin Plastic Small Outline Integrated Circuit, 4.9 x 3.9 mm, Pitch 1.27 mm Pitch; Supplier 1: Digi-Key; Supplier Part Number 1: UC37133DG4-ND; Supplier 2: Newark; Supplier Part Number 2: 34M0264; Supplier 3: Mouser; Supplier Part Number 3: 595-UC37133DG4; Driver Configuration: High Side; Eco-Plan: Green (RoHS & no Sb/Br); Rise Time(ns): 1000; Mounting Technology: Surface Mount; Code_JEDEC: MS-012AA; ComponentLink1Description: Datasheet; ComponentLink1URL: http://www.ti.com/general/docs/lit/getliterature.tsp?genericPartNumber=UC37133&fileType=pdf
footprint D8_N (SOIC, 8-Leads, Body 4.9x3.9mm, Pitch 1.27mm, IPC Medium Density)
footprint D8_L (SOIC, 8-Leads, Body 4.9x3.9mm, Pitch 1.27mm, IPC High Density)
footprint D8_M (SOIC, 8-Leads, Body 4.9x3.9mm, Pitch 1.27mm, IPC Low Density)
pins: 1 LED (oc) "Open collector output intended to drive an LED. This pin is driven low whenever the output is turned off and is externally pulled high when the output is turned on (see Fig. 3b and 3c).", 2 CDEL (in) "A capacitor connected to this pin is used to program both VCC pulse interruption time and power turn-on delay. The capacitor discharge time corresponds to VCC interruption and the charge time to VCC turn-on delay. The ratio (See Datasheet)", 3 VREF (power) "The 6V regulated reference capable of supplying up to 8mA. The recommended decoupling capacitor is 1nF.", 4 IN (in) "The input to the comparator that detects when the output transistor should be turned on. The input threshold is 3.0V (1/2 VREF) and the input voltage range is 0V to VREF.", 5 GND (power) "The reference point for the internal reference, all thresholds, and the return for the remainder of the device.", 6 HS (power) "(For UC37132 and UC37133) The output of the switching transistor in the high side configuration. The emitter of the output transistor is the HS pin which is connected to the load. For the UC37132, the HS pin must be tied to (See Datasheet)", 7 CSH (in) "(For UC37132 and UC37133) This high side current sense pin is used to program the current limit for high side applications by connecting a resistor between VCC and CSH. An over load current is detected when the voltage drop (See Datasheet)", 8 VCC (power) "The supply voltage for the chip. Decouple this pin with a good quality ceramic capacitor to ground."